# Altium schematic symbol library LM4890.Schlib: 1 symbol
Pins are listed as number, name and electrical type; pins without a type are passive.

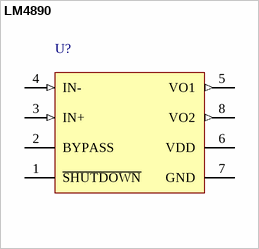
[diagram p0: symbol LM4890]

## LM4890
designator U?
1 Watt AB Audio Power Amplifier
pins: 1 ~{SHUTDOWN}, 2 BYPASS (power), 3 IN+ (in), 4 IN- (in), 5 VO1 (out), 6 VDD (power), 7 GND (power), 8 VO2 (out)